# Altium footprint library SMD-RCD 0607.PcbLib: 104 footprints (part 2 of 7)
Each footprint in its own frame and in the unit in brackets; x right, y up, seen from the top. Pads: shape width x height; smd on the part's side, far side on the other; paste and mask are expansions set on the pad; w line width, h text height; cw(c..) or ccw(c..) is an arc to the next point about the centre after c.
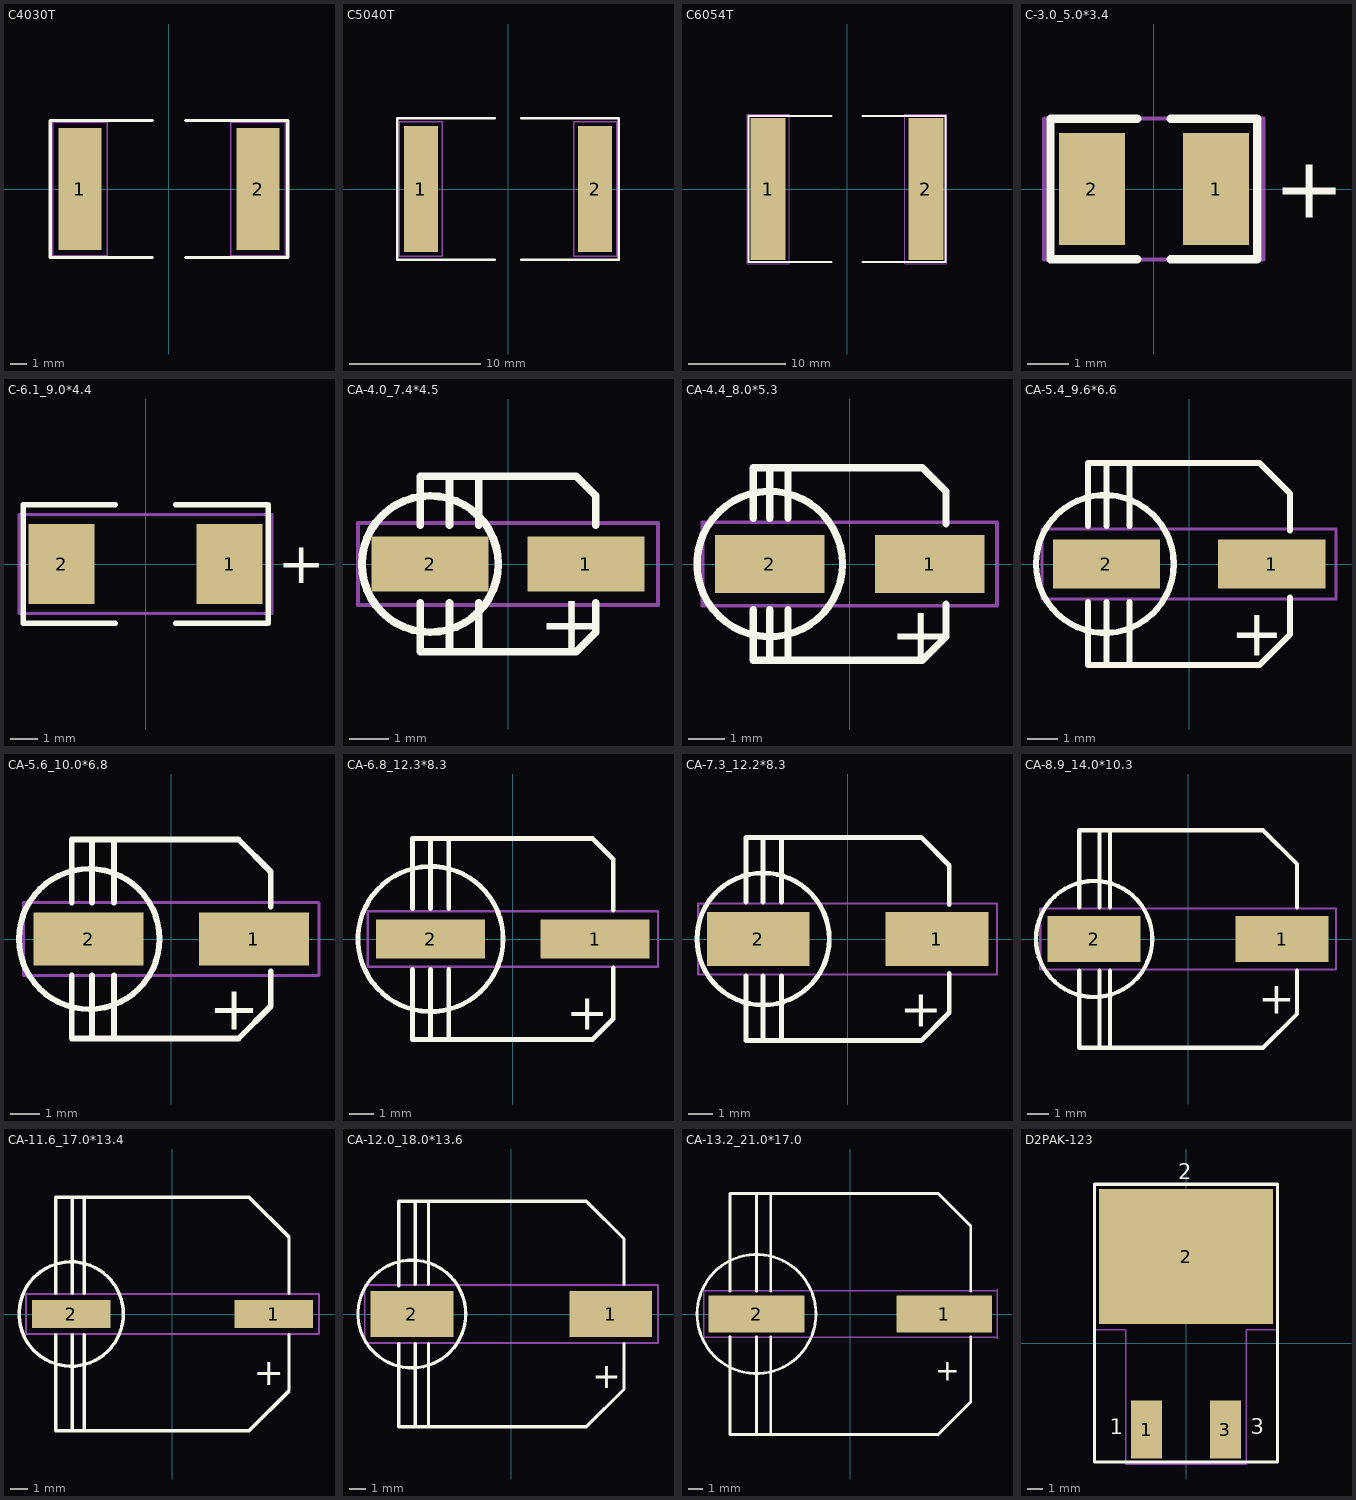
[diagram p1: the footprints below, top view; thin cyan lines are the x and y axes]

## C4030T [mm]
height 5.5
pads (2):
  rect 2.6x7.4 smd: 1(-5.4,0) 2(5.4,0)
Top Overlay:
  lines w0.2: -1,-4.15 -7.2,-4.15 -7.2,4.15 -1,4.15 ; 1,-4.15 7.2,-4.15 7.2,4.15 1,4.15
Mechanical 15:
  lines w0.1: -7.05,-4.05 -7.05,4.05 -3.75,4.05 -3.75,-4.05 -7.05,-4.05 ; 3.75,-4.05 7.05,-4.05 7.05,4.05 3.75,4.05 3.75,-4.05

## C5040T [mm]
height 3.8
pads (2):
  rect 2.6x9.6 smd: 1(-6.65,0) 2(6.65,0)
Top Overlay:
  lines w0.2: -1,-5.4 -8.45,-5.4 -8.45,5.4 -1,5.4 ; 1,-5.4 8.45,-5.4 8.45,5.4 1,5.4
Mechanical 15:
  lines w0.1: -8.3,-5.15 -8.3,5.15 -5,5.15 -5,-5.15 -8.3,-5.15 ; 5,-5.15 8.3,-5.15 8.3,5.15 5,5.15 5,-5.15

## C6054T [mm]
height 6.4
pads (2):
  rect 3.6x14.6 smd: 1(-8.1,0) 2(8.1,0)
Top Overlay:
  lines w0.2: -1.6,-7.5 -10.1,-7.5 -10.1,7.5 -1.6,7.5 ; 1.6,-7.5 10.1,-7.5 10.1,7.5 1.6,7.5
Mechanical 15:
  lines w0.1: -10.25,-7.65 -5.95,-7.65 -5.95,7.65 -10.25,7.65 -10.25,-7.65 ; 5.95,-7.65 5.95,7.65 10.25,7.65 10.25,-7.65 5.95,-7.65

## C-3.0_5.0*3.4 [mm]
height 1.9
pads (2):
  rect 1.6x2.7 smd: 1(1.5,0) 2(-1.5,0)
Top Overlay:
  lines w0.2: -0.4,-1.7 -2.5,-1.7 -2.5,1.7 -0.4,1.7 ; 0.4,-1.7 2.5,-1.7 2.5,1.7 0.4,1.7
  text "+" at 2.9,-0.7 h1.5
Mechanical 15:
  lines w0.1: -2.65,-1.7 -2.65,1.7 2.65,1.7 2.65,-1.7 -2.65,-1.7

## C-6.1_9.0*4.4 [mm]
height 1.8
pads (2):
  rect 2.4x2.9 smd: 1(3.05,0) 2(-3.05,0)
Top Overlay:
  lines w0.2: -1.1,-2.15 -4.45,-2.15 -4.45,2.15 -1.1,2.15 ; 1.1,-2.15 4.45,-2.15 4.45,2.15 1.1,2.15
  text "+" at 4.8,-0.7 h1.5
Mechanical 15:
  lines w0.1: -4.6,-1.8 -4.6,1.8 4.6,1.8 4.6,-1.8 -4.6,-1.8

## CA-4.0_7.4*4.5 [mm]
height 5.8
pads (2):
  rect 3x1.4 smd: 1(2,0) 2(-2,0)
Top Overlay:
  circle w0.2: c-2,0 r1.75
  lines w0.2: -2.25,-1 -2.25,-2.25 1.75,-2.25 2.25,-1.75 2.25,-1 ; -2.25,1 -2.25,2.25 1.75,2.25 2.25,1.75 2.25,1 ; -1.5,-2.25 -1.5,-1 ; -1.5,1 -1.5,2.25 ; -0.75,-2.25 -0.75,-1 ; -0.75,1 -0.75,2.25
  text "+" at 0.775,-2.25 h1.5
Mechanical 15:
  lines w0.1: -3.85,-1.05 3.85,-1.05 3.85,1.05 -3.85,1.05 -3.85,-1.05

## CA-4.4_8.0*5.3 [mm]
height 5.2
pads (2):
  rect 3x1.6 smd: 1(2.2,0) 2(-2.2,0)
Top Overlay:
  circle w0.2: c-2.2,0 r2
  lines w0.2: -2.65,-1.25 -2.65,-2.65 2,-2.65 2.65,-2 2.65,-1.1 ; -2.65,1.25 -2.65,2.65 2,2.65 2.65,2 2.65,1.1 ; -2.2,-2.65 -2.2,-1.25 ; -2.2,1.25 -2.2,2.65 ; -1.7,-2.65 -1.7,-1.25 ; -1.7,1.25 -1.7,2.65
  text "+" at 1.1,-2.65 h1.5
Mechanical 15:
  lines w0.1: -4.05,-1.15 4.05,-1.15 4.05,1.15 -4.05,1.15 -4.05,-1.15

## CA-5.4_9.6*6.6 [mm]
height 5.2
pads (2):
  rect 3.5x1.6 smd: 1(2.7,0) 2(-2.7,0)
Top Overlay:
  circle w0.2: c-2.75,0 r2.25
  lines w0.2: -3.3,-1.25 -3.3,-3.3 2.3,-3.3 3.3,-2.3 3.3,-1.1 ; -3.3,1.25 -3.3,3.3 2.3,3.3 3.3,2.3 3.3,1.1 ; -2.7,-3.3 -2.7,-1.25 ; -2.7,1.25 -2.7,3.3 ; -1.95,-3.3 -1.95,-1.25 ; -1.95,1.25 -1.95,3.3
  text "+" at 1.35,-3 h1.52
Mechanical 15:
  lines w0.1: -4.8,-1.15 4.8,-1.15 4.8,1.15 -4.8,1.15 -4.8,-1.15

## CA-5.6_10.0*6.8 [mm]
height 8
pads (2):
  rect 3.75x1.8 smd: 1(2.825,0) 2(-2.825,0)
Top Overlay:
  circle w0.2: c-2.8,0 r2.4
  lines w0.2: -3.4,-1.25 -3.4,-3.4 2.3,-3.4 3.4,-2.3 3.4,-1.1 ; -3.4,1.25 -3.4,3.4 2.3,3.4 3.4,2.3 3.4,1.1 ; -2.7,-3.3 -2.7,-1.25 ; -2.7,1.25 -2.7,3.3 ; -1.95,-3.3 -1.95,-1.25 ; -1.95,1.25 -1.95,3.3
  text "+" at 1.275,-3.1 h1.52
Mechanical 15:
  lines w0.1: -5.05,-1.25 -5.05,1.25 5.05,1.25 5.05,-1.25 -5.05,-1.25

## CA-6.8_12.3*8.3 [mm]
height 6.3
pads (2):
  rect 4.5x1.6 smd: 1(3.4,0) 2(-3.4,0)
Top Overlay:
  circle w0.2: c-3.4,0 r3
  lines w0.2: -4.15,-1.25 -4.15,-4.15 3.3,-4.15 4.15,-3.3 4.15,-1.2 ; -4.15,1.25 -4.15,4.15 3.3,4.15 4.15,3.3 4.15,1.2 ; -3.4,-4.15 -3.4,-1.25 ; -3.4,1.25 -3.4,4.15 ; -2.65,-4.15 -2.65,-1.25 ; -2.65,1.25 -2.65,4.15
  text "+" at 2.2,-3.75 h1.52
Mechanical 15:
  lines w0.1: -6,-1.15 -6,1.15 6,1.15 6,-1.15 -6,-1.15

## CA-7.3_12.2*8.3 [mm]
height 10
pads (2):
  rect 4.2x2.2 smd: 1(3.65,0) 2(-3.65,0)
Top Overlay:
  circle w0.2: c-3.45,0 r2.7
  lines w0.2: -4.15,-1.5 -4.15,-4.15 3,-4.15 4.15,-3 4.15,-1.4 ; -4.15,1.5 -4.15,4.15 3,4.15 4.15,3 4.15,1.4 ; -3.45,-4.15 -3.45,-1.5 ; -3.45,1.5 -3.45,4.15 ; -2.7,-4.15 -2.7,-1.5 ; -2.7,1.5 -2.7,4.15
  text "+" at 2.125,-3.575 h1.52
Mechanical 15:
  lines w0.1: -6.1,-1.45 6.1,-1.45 6.1,1.45 -6.1,1.45 -6.1,-1.45

## CA-8.9_14.0*10.3 [mm]
height 10
pads (2):
  rect 4.4x2.2 smd: 1(4.45,0) 2(-4.45,0)
Top Overlay:
  circle w0.2: c-4.45,0 r2.75
  lines w0.2: -5.15,-1.5 -5.15,-5.15 3.55,-5.15 5.15,-3.55 5.15,-1.5 ; -5.15,1.5 -5.15,5.15 3.55,5.15 5.15,3.55 5.15,1.5 ; -4.2,-5.15 -4.2,-1.5 ; -4.2,1.5 -4.2,5.15 ; -3.7,-5.15 -3.7,-1.5 ; -3.7,1.5 -3.7,5.15
  text "+" at 3.325,-3.55 h1.52
Mechanical 15:
  lines w0.1: -7,-1.45 7,-1.45 7,1.45 -7,1.45 -7,-1.45

## CA-11.6_17.0*13.4 [mm]
height 13.5
pads (2):
  rect 4.5x1.6 smd: 1(5.825,0) 2(-5.825,0)
Top Overlay:
  circle w0.2: c-5.825,0 r3
  lines w0.2: -6.7,-6.7 -6.7,-1.2 ; -6.7,1.2 -6.7,6.7 ; -6.675,-6.7 4.425,-6.7 6.7,-4.425 ; -6.675,6.7 4.425,6.7 6.7,4.425 ; -5.775,-6.7 -5.775,-1.2 ; -5.775,1.2 -5.775,6.7 ; -5.075,-6.7 -5.075,-1.2 ; -5.075,1.2 -5.075,6.7 ; 6.7,-4.4 6.7,-4.425 ; 6.7,-1.2 6.7,-4.425 ; 6.7,1.2 6.7,4.425 ; 6.7,4.4 6.7,4.425
  text "+" at 4.675,-4.1 h1.52
Mechanical 15:
  lines w0.1: -8.425,-1.15 -8.425,1.15 8.425,1.15 8.425,-1.15 -8.425,-1.15

## CA-12.0_18.0*13.6 [mm]
height 13.5
pads (2):
  rect 5x2.8 smd: 1(6,0) 2(-6,0)
Top Overlay:
  circle w0.2: c-6,0 r3.25
  lines w0.2: -6.8,-1.8 -6.8,-6.8 4.525,-6.8 6.8,-4.525 6.8,-1.8 ; -6.8,1.7 -6.8,6.8 4.525,6.8 6.8,4.525 6.8,1.8 ; -5.8,-6.8 -5.8,-1.8 ; -5.8,1.8 -5.8,6.8 ; -5,-6.8 -5,-1.8 ; -5,1.8 -5,6.8
  text "+" at 4.875,-4.475 h1.52
Mechanical 15:
  lines w0.1: -8.85,-1.75 8.85,-1.75 8.85,1.75 -8.85,1.75 -8.85,-1.75

## CA-13.2_21.0*17.0 [mm]
height 16.5
pads (2):
  rect 6.75x2.6 smd: 1(6.625,0) 2(-6.625,0)
Top Overlay:
  circle w0.2: c-6.625,0 r4.2
  lines w0.2: -8.5,-1.6 -8.5,-8.5 6.2,-8.5 8.5,-6.2 8.5,-1.6 ; -8.5,1.6 -8.5,8.5 6.2,8.5 8.5,6.2 8.5,1.6 ; -6.625,-8.5 -6.625,-1.6 ; -6.625,1.6 -6.625,8.5 ; -5.625,-8.5 -5.625,-1.6 ; -5.625,1.6 -5.625,8.5
  text "+" at 6,-4.7 h1.52
Mechanical 15:
  lines w0.1: -10.35,-1.75 -10.35,1.75 ; -10.35,-1.65 10.35,-1.65 ; -10.35,1.65 10.35,1.65 ; 10.35,-1.75 10.35,1.75

## D2PAK-123 [mm]
height 4.83
pads (3):
  rect 2.03x3.81 smd: 1(-2.595,-5.687) 3(2.595,-5.687)
  rect 11.43x8.89 smd: 2(0,5.687)
Top Overlay:
  lines w0.2: -6,-7.812 -6,10.438 6,10.438 6,-7.812 -6,-7.812
  text "2" at -0.508,10.768 h1
  text "1" at -5,-6 h1
  text "3" at 4.25,-6 h1
Mechanical 16:
  lines w0.1: -6.065,0.893 -6.065,10.483 6.065,10.483 6.065,0.893 3.96,0.893 3.96,-7.943 -3.96,-7.943 -3.96,0.893 -6.065,0.893